# EAGLE library part NODEMCU (library misc)
A development kit for NodeMCU firmware.
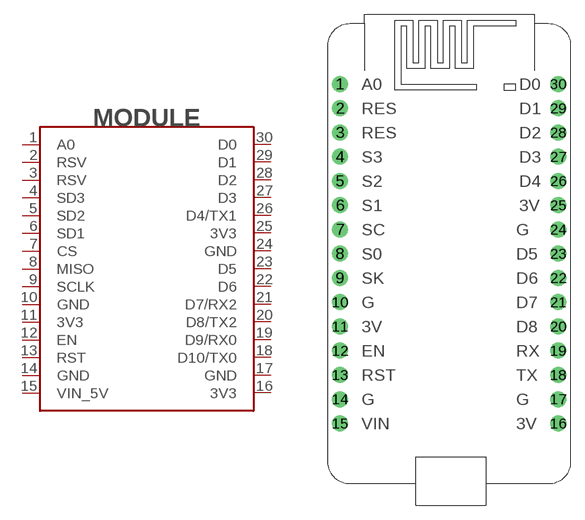
[diagram p71: symbol with the pads of NODEMCU; footprint NODEMCU]

Designator prefix MODULE

## NODEMCU (MANF#: NodeMCU V2)  [NODEMCU]
1  A0
2  RSV
3  RSV
4  SD3
5  SD2
6  SD1
7  CS
8  MISO
9  SCLK
10  GND  pwr
11  3V3  pwr
12  EN
13  RST
14  GND  pwr
15  VIN_5V  pwr
16  3V3  pwr
17  GND  pwr
18  D10/TX0
19  D9/RX0
20  D8/TX2
21  D7/RX2
22  D6
23  D5
24  GND  pwr
25  3V3  pwr
26  D4/TX1
27  D3
28  D2
29  D1
30  D0

## Footprint NODEMCU (pad centres in mm)
drill 1 pad 1.676: 1 -11.43,17.78; 2 -11.43,15.24; 3 -11.43,12.7; 4 -11.43,10.16; 5 -11.43,7.62; 6 -11.43,5.08; 7 -11.43,2.54; 8 -11.43,0; 9 -11.43,-2.54; 10 -11.43,-5.08; 11 -11.43,-7.62; 12 -11.43,-10.16; 13 -11.43,-12.7; 14 -11.43,-15.24; 15 -11.43,-17.78; 16 11.43,-17.78; 17 11.43,-15.24; 18 11.43,-12.7; 19 11.43,-10.16; 20 11.43,-7.62; 21 11.43,-5.08; 22 11.43,-2.54; 23 11.43,0; 24 11.43,2.54; 25 11.43,5.08; 26 11.43,7.62; 27 11.43,10.16; 28 11.43,12.7; 29 11.43,15.24; 30 11.43,17.78